# EAGLE library part MIC5387-SGFYMT-TR (library MIC5387_5V_to_3V3)
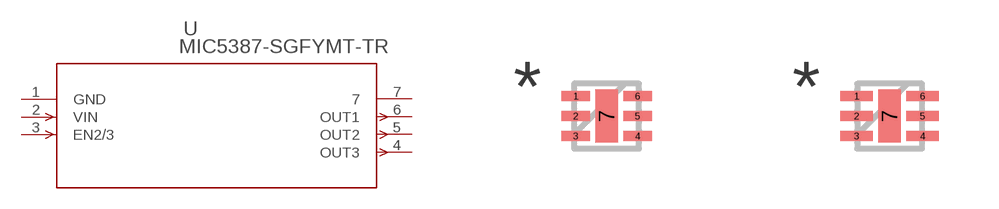
[diagram p0: symbol with the pads of MLF-6_MT_MCH; footprints MLF-6_MT_MCH, MLF-6_MT_MCH-M]

Designator prefix U

## MIC5387-SGFYMT-TR (COPYRIGHT: Copyright (C) 2024 Ultra Librarian. All rights reserved.; MANUFACTURER_PART_NUMBER: MIC5387-SGFYMT-TR; MFR_NAME: Microchip)  [MLF-6_MT_MCH]
1  GND  pwr
2  VIN  in
3  EN2/3  in
4  OUT3  out
5  OUT2  out
6  OUT1  out
7  7  pas

## MIC5387-SGFYMT-TRMLF-6_MT_MCH-M (COPYRIGHT: Copyright (C) 2024 Ultra Librarian. All rights reserved.; MANUFACTURER_PART_NUMBER: MIC5387-SGFYMT-TR; MFR_NAME: Microchip)  [MLF-6_MT_MCH-M]
Pads as for MLF-6_MT_MCH

## MIC5387-SGFYMT-TRMLF-6_MT_MCH-L (COPYRIGHT: Copyright (C) 2024 Ultra Librarian. All rights reserved.; MANUFACTURER_PART_NUMBER: MIC5387-SGFYMT-TR; MFR_NAME: Microchip)  [MLF-6_MT_MCH-L]
Pads as for MLF-6_MT_MCH

## Footprint MLF-6_MT_MCH (pad centres in mm)
smd 0.711 x 0.254: 1 -0.775,0.5; 2 -0.775,0; 3 -0.775,-0.5; 4 0.775,-0.5; 5 0.775,0; 6 0.775,0.5
smd 0.559 x 1.321: 7 0,0

## Footprint MLF-6_MT_MCH-M (pad centres in mm)
smd 0.813 x 0.254: 1 -0.826,0.5; 2 -0.826,0; 3 -0.826,-0.5; 4 0.826,-0.5; 5 0.826,0; 6 0.826,0.5
smd 0.559 x 1.321: 7 0,0

## Footprint MLF-6_MT_MCH-L (pad centres in mm)
smd 0.61 x 0.254: 1 -0.724,0.5; 2 -0.724,0; 3 -0.724,-0.5; 4 0.724,-0.5; 5 0.724,0; 6 0.724,0.5
smd 0.559 x 1.321: 7 0,0